# Altium integrated library MJ1-3510-SMT.IntLib: 1 symbol
Pins are listed as number, name and electrical type; pins without a type are passive.

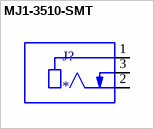
[diagram p0: symbol MJ1-3510-SMT]

## MJ1-3510-SMT
designator J?
3.5 mm, Mono, Right Angle, Surface Mount (SMT), Audio Jack Connector; MF: {'manufacturer': u'CUI'}; MP: MJ1-3510-SMT; Value: *; Price: None; Availability: Unavailable; Package: None
footprint CUI_MJ1-3510-SMT
pins: 1, 2, 3